# Altium schematic symbol library kmilo17pet-TI_LDO_0_350.SchLib: 1649 symbols (part 11 of 66)
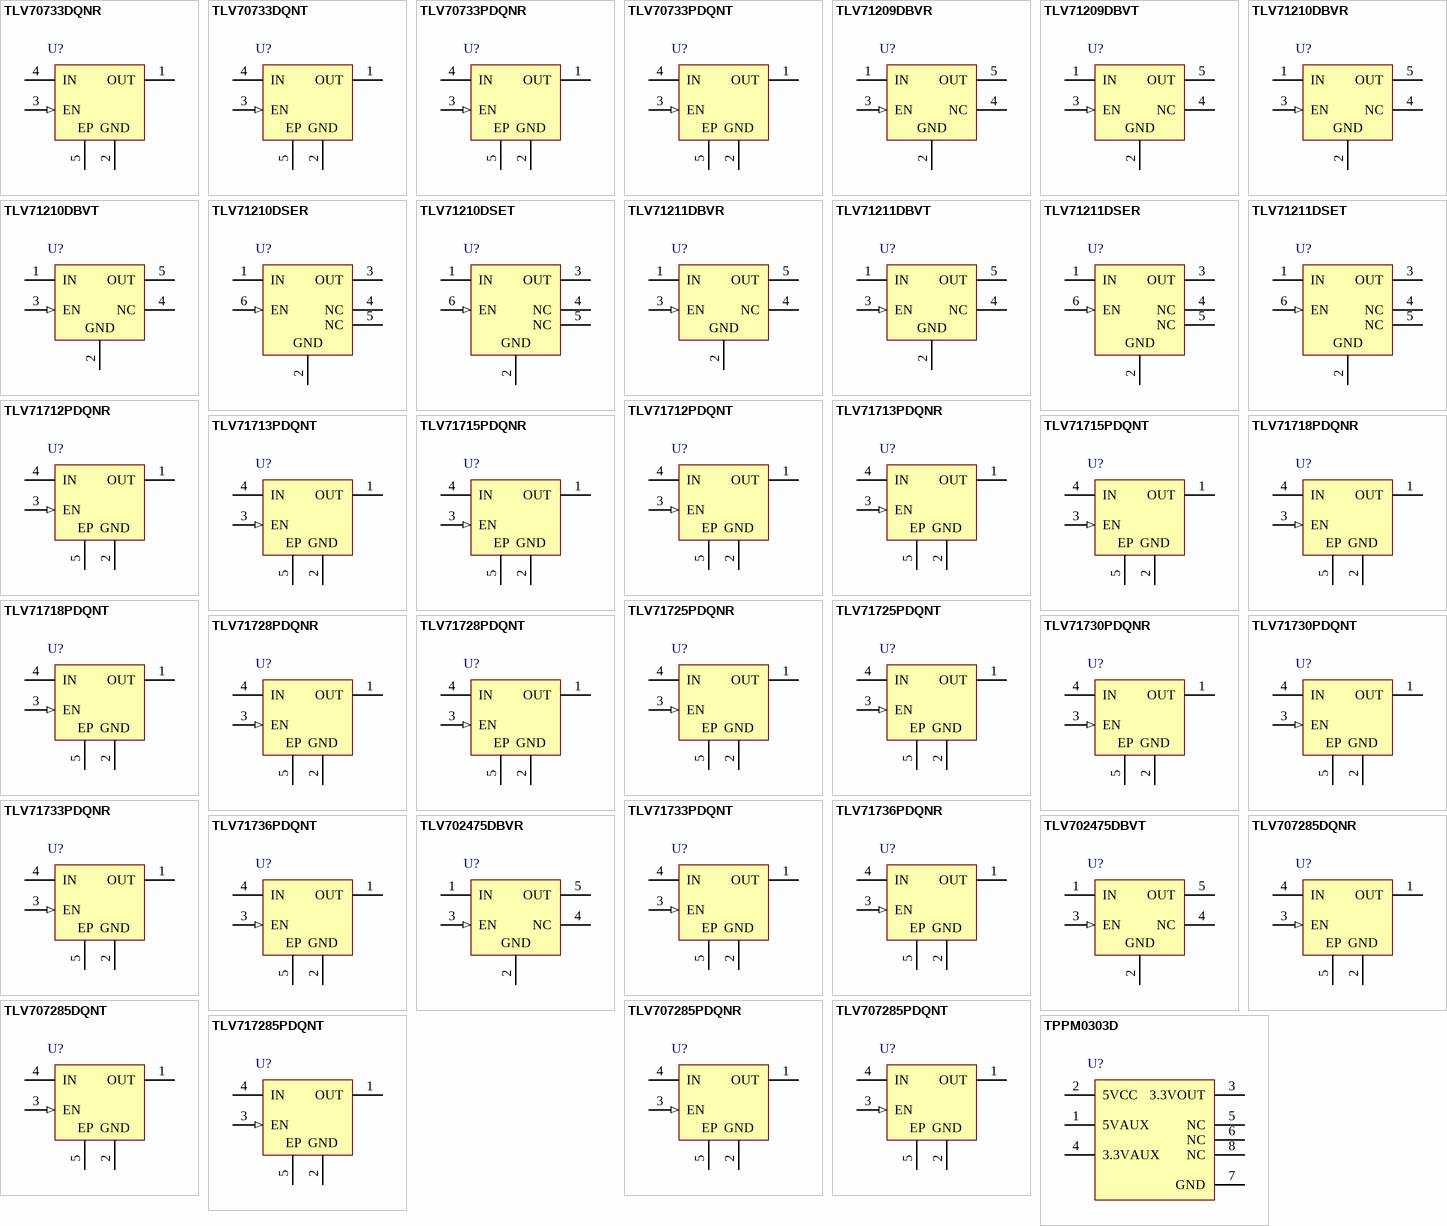
[diagram p52: symbols TLV70733DQNR to TPPM0303D]

## TLV70733PDQNT
designator U?
Single Output Low Noise LDO, 200 mA, Fixed 3.3 V Output, 2 to 5.5 V Input, 4-pin X2SON(DQN), -40 to 85 degC, Green (RoHS & no Sb/Br); Manufacturer: Texas Instruments; PartNumber: TLV70733PDQNT; Accuracy(%): 1.5; Fixed Output Options(V): 3.3; Iout(Max)(A): 0.2; Iq(Typ)(mA): 0.02; SubFamily: Single Channel LDO; Vdo(Typ)(mV): 250; Vin(Max)(V): 5.5; Vin(Min)(V): 2; DatasheetVersion: SBVS153C; PackageVersion: 4210367/D; PackageReference: DQN4-480X480TP; PackageDescription: 4-Pin Plastic Small Outline, Body 1 x 1 mm, Pitch 0.65 mm; Supplier 1: Digi-Key; Supplier Part Number 1: 296-28355-2-ND; Supplier 2: Digi-Key; Supplier Part Number 2: 296-28355-1-ND; Supplier 3: Digi-Key; Supplier Part Number 3: 296-28355-6-ND; Supplier 4: Newark; Supplier Part Number 4: 40T5408; Supplier 5: Mouser; Supplier Part Number 5: 595-TLV70733PDQNT; Eco-Plan: Green (RoHS & no Sb/Br); Vout Adj(Max)(V): 3.3; Vout Adj(Min)(V): 3.3; Mounting Technology: Surface Mount; ComponentLink1Description: Manufacturer URL; ComponentLink1URL: http://www.ti.com/; ComponentLink2Description: Datasheet; ComponentLink2URL: http://www.ti.com/general/docs/lit/getliterature.tsp?genericPartNumber=TLV70733P&fileType=pdf
footprint TI-DQN4-480X480TP_V (SON, 4-Leads, Body 1x1mm, Pitch 0.65mm, Thermal Pad 0.5x0.5mm)
pins: 1 OUT (power) "Regulated output voltage pin. A small 1 uF ceramic capacitor is needed from this pin to ground to assure stability.", 2 GND (power) "Ground pin", 3 EN (in) "Enable pin. Driving EN over 0.9 V turns on the regulator. Driving EN below 0.4 V puts the regulator into shutdown mode For TLV707xxP, output voltage is discharged through an internal 120-ohm resistor when device is shut down.", 4 IN (power) "Input pin. A small 1uF ceramic capacitor is recommended from this pin to ground for good transient performance.", 5 EP "Exposed thermal pad"

## TLV71209DBVR
designator U?
Single Output LDO, 300 mA, Fixed 0.9 V Output, 2 to 5.5 V Input, with Low IQ, 5-pin SOT-23 (DBV), -40 to 125 degC, Green (RoHS & no Sb/Br); Manufacturer: Texas Instruments; PartNumber: TLV71209DBVR; Accuracy(%): 2; Fixed Output Options(V): 0.9; Iout(Max)(A): 0.3; Iq(Typ)(mA): 0.035; SubFamily: Single Channel LDO; Vdo(Typ)(mV): 260; Vin(Max)(V): 5.5; DatasheetVersion: SBVS150A; PackageVersion: 4073253-4/K; PackageReference: DBV5; PackageDescription: 5-Pin Plastic Small Outline, Body 1.60 Ã— 2.90 mm, Pitch 0.95 mm; Supplier 1: Digi-Key; Supplier Part Number 1: TLV71209DBVR-ND; Supplier 2: Newark; Supplier Part Number 2: 13T5915; Supplier 3: Mouser; Supplier Part Number 3: 595-TLV71209DBVR; Eco-Plan: Green (RoHS & no Sb/Br); Vin(Min)(V): 2; Vout Adj(Max)(V): 0.9; Vout Adj(Min)(V): 0.9; Mounting Technology: Surface Mount; Code_JEDEC: MO-178; ComponentLink1Description: Manufacturer URL; ComponentLink1URL: http://www.ti.com/; ComponentLink2Description: Datasheet; ComponentLink2URL: http://www.ti.com/general/docs/lit/getliterature.tsp?genericPartNumber=TLV71209&fileType=pdf; ComponentLink3Description: Package Specification; ComponentLink3URL: http://www.ti.com/litv/pdf/mpds018i
footprint TI-DBV5_N (SOT23, 5-Leads, Body 2.9x1.6mm, Pitch 0.95mm, IPC Medium Density)
footprint TI-DBV5_L (SOT23, 5-Leads, Body 2.9x1.6mm, Pitch 0.95mm, IPC High Density)
footprint TI-DBV5_M (SOT23, 5-Leads, Body 2.9x1.6mm, Pitch 0.95mm, IPC Low Density)
pins: 1 IN (power) "Input supply voltage", 2 GND (power) "Ground", 3 EN (in) "Enable input", 4 NC "No connected", 5 OUT (power) "Regulated output voltage"

## TLV71209DBVT
designator U?
Single Output LDO, 300 mA, Fixed 0.9 V Output, 2 to 5.5 V Input, with Low IQ, 5-pin SOT-23 (DBV), -40 to 125 degC, Green (RoHS & no Sb/Br); Manufacturer: Texas Instruments; PartNumber: TLV71209DBVT; Accuracy(%): 2; Fixed Output Options(V): 0.9; Iout(Max)(A): 0.3; Iq(Typ)(mA): 0.035; SubFamily: Single Channel LDO; Vdo(Typ)(mV): 260; Vin(Max)(V): 5.5; DatasheetVersion: SBVS150A; PackageVersion: 4073253-4/K; PackageReference: DBV5; PackageDescription: 5-Pin Plastic Small Outline, Body 1.60 Ã— 2.90 mm, Pitch 0.95 mm; Supplier 1: Digi-Key; Supplier Part Number 1: 296-27896-2-ND; Supplier 2: Digi-Key; Supplier Part Number 2: 296-27896-1-ND; Supplier 3: Digi-Key; Supplier Part Number 3: 296-27896-6-ND; Supplier 4: Newark; Supplier Part Number 4: 13T5916; Supplier 5: Mouser; Supplier Part Number 5: 595-TLV71209DBVT; Eco-Plan: Green (RoHS & no Sb/Br); Vin(Min)(V): 2; Vout Adj(Max)(V): 0.9; Vout Adj(Min)(V): 0.9; Mounting Technology: Surface Mount; Code_JEDEC: MO-178; ComponentLink1Description: Manufacturer URL; ComponentLink1URL: http://www.ti.com/; ComponentLink2Description: Datasheet; ComponentLink2URL: http://www.ti.com/general/docs/lit/getliterature.tsp?genericPartNumber=TLV71209&fileType=pdf; ComponentLink3Description: Package Specification; ComponentLink3URL: http://www.ti.com/litv/pdf/mpds018i
footprint TI-DBV5_N (SOT23, 5-Leads, Body 2.9x1.6mm, Pitch 0.95mm, IPC Medium Density)
footprint TI-DBV5_L (SOT23, 5-Leads, Body 2.9x1.6mm, Pitch 0.95mm, IPC High Density)
footprint TI-DBV5_M (SOT23, 5-Leads, Body 2.9x1.6mm, Pitch 0.95mm, IPC Low Density)
pins: 1 IN (power) "Input supply voltage", 2 GND (power) "Ground", 3 EN (in) "Enable input", 4 NC "No connected", 5 OUT (power) "Regulated output voltage"

## TLV71210DBVR
designator U?
Single Output LDO, 300 mA, Fixed 1 V Output, 2 to 5.5 V Input, with Low IQ, 5-pin SOT-23 (DBV), -40 to 125 degC, Green (RoHS & no Sb/Br); Manufacturer: Texas Instruments; PartNumber: TLV71210DBVR; Accuracy(%): 2; Fixed Output Options(V): 1; Iout(Max)(A): 0.3; Iq(Typ)(mA): 0.035; SubFamily: Single Channel LDO; Vdo(Typ)(mV): 260; Vin(Max)(V): 5.5; DatasheetVersion: SBVS150A; PackageVersion: 4073253-4/K; PackageReference: DBV5; PackageDescription: 5-Pin Plastic Small Outline, Body 1.60 Ã— 2.90 mm, Pitch 0.95 mm; Supplier 1: Digi-Key; Supplier Part Number 1: 296-29737-2-ND; Supplier 2: Digi-Key; Supplier Part Number 2: 296-29737-1-ND; Supplier 3: Digi-Key; Supplier Part Number 3: 296-29737-6-ND; Supplier 4: Newark; Supplier Part Number 4: 71T5416; Supplier 5: Mouser; Supplier Part Number 5: 595-TLV71210DBVR; Eco-Plan: Green (RoHS & no Sb/Br); Vin(Min)(V): 2; Vout Adj(Max)(V): 1; Vout Adj(Min)(V): 1; Mounting Technology: Surface Mount; Code_JEDEC: MO-178; ComponentLink1Description: Manufacturer URL; ComponentLink1URL: http://www.ti.com/; ComponentLink2Description: Datasheet; ComponentLink2URL: http://www.ti.com/general/docs/lit/getliterature.tsp?genericPartNumber=TLV71210&fileType=pdf; ComponentLink3Description: Package Specification; ComponentLink3URL: http://www.ti.com/litv/pdf/mpds018i
footprint TI-DBV5_N (SOT23, 5-Leads, Body 2.9x1.6mm, Pitch 0.95mm, IPC Medium Density)
footprint TI-DBV5_L (SOT23, 5-Leads, Body 2.9x1.6mm, Pitch 0.95mm, IPC High Density)
footprint TI-DBV5_M (SOT23, 5-Leads, Body 2.9x1.6mm, Pitch 0.95mm, IPC Low Density)
pins: 1 IN (power) "Input supply voltage", 2 GND (power) "Ground", 3 EN (in) "Enable input", 4 NC "No connected", 5 OUT (power) "Regulated output voltage"

## TLV71210DBVT
designator U?
Single Output LDO, 300 mA, Fixed 1 V Output, 2 to 5.5 V Input, with Low IQ, 5-pin SOT-23 (DBV), -40 to 125 degC, Green (RoHS & no Sb/Br); Manufacturer: Texas Instruments; PartNumber: TLV71210DBVT; Accuracy(%): 2; Fixed Output Options(V): 1; Iout(Max)(A): 0.3; Iq(Typ)(mA): 0.035; SubFamily: Single Channel LDO; Vdo(Typ)(mV): 260; Vin(Max)(V): 5.5; DatasheetVersion: SBVS150A; PackageVersion: 4073253-4/K; PackageReference: DBV5; PackageDescription: 5-Pin Plastic Small Outline, Body 1.60 Ã— 2.90 mm, Pitch 0.95 mm; Supplier 1: Digi-Key; Supplier Part Number 1: TLV71210DBVT-ND; Supplier 2: Mouser; Supplier Part Number 2: 595-TLV71210DBVT; Eco-Plan: Green (RoHS & no Sb/Br); Vin(Min)(V): 2; Vout Adj(Max)(V): 1; Vout Adj(Min)(V): 1; Mounting Technology: Surface Mount; Code_JEDEC: MO-178; ComponentLink1Description: Manufacturer URL; ComponentLink1URL: http://www.ti.com/; ComponentLink2Description: Datasheet; ComponentLink2URL: http://www.ti.com/general/docs/lit/getliterature.tsp?genericPartNumber=TLV71210&fileType=pdf; ComponentLink3Description: Package Specification; ComponentLink3URL: http://www.ti.com/litv/pdf/mpds018i
footprint TI-DBV5_N (SOT23, 5-Leads, Body 2.9x1.6mm, Pitch 0.95mm, IPC Medium Density)
footprint TI-DBV5_L (SOT23, 5-Leads, Body 2.9x1.6mm, Pitch 0.95mm, IPC High Density)
footprint TI-DBV5_M (SOT23, 5-Leads, Body 2.9x1.6mm, Pitch 0.95mm, IPC Low Density)
pins: 1 IN (power) "Input supply voltage", 2 GND (power) "Ground", 3 EN (in) "Enable input", 4 NC "No connected", 5 OUT (power) "Regulated output voltage"

## TLV71210DSER
designator U?
Single Output LDO, 300 mA, Fixed 1 V Output, 2 to 5.5 V Input, with Low IQ, 6-pin WSON (DSE), -40 to 125 degC, Green (RoHS & no Sb/Br); Manufacturer: Texas Instruments; PartNumber: TLV71210DSER; Accuracy(%): 2; Fixed Output Options(V): 1; Iout(Max)(A): 0.3; Iq(Typ)(mA): 0.035; SubFamily: Single Channel LDO; Vdo(Typ)(mV): 260; Vin(Max)(V): 5.5; DatasheetVersion: SBVS150A; PackageVersion: 4207810/A; PackageReference: DSE6; PackageDescription: 6-Pin Plastic Small Outline, Body 1.5 x 1.5 mm, Pitch 0.5 mm; Supplier 1: Digi-Key; Supplier Part Number 1: TLV71210DSER-ND; Supplier 2: Mouser; Supplier Part Number 2: 595-TLV71210DSER; Eco-Plan: Green (RoHS & no Sb/Br); Vin(Min)(V): 2; Vout Adj(Max)(V): 1; Vout Adj(Min)(V): 1; Mounting Technology: Surface Mount; ComponentLink1Description: Manufacturer URL; ComponentLink1URL: http://www.ti.com/; ComponentLink2Description: Datasheet; ComponentLink2URL: http://www.ti.com/general/docs/lit/getliterature.tsp?genericPartNumber=TLV71210&fileType=pdf; ComponentLink3Description: Package Specification; ComponentLink3URL: http://www.ti.com/litv/pdf/mpds287
footprint TI-DSE6_V (SON, 6-Leads, Body 1.5x1.5mm, Pitch 0.5mm)
pins: 1 IN (power) "Input pin. A small 1-uF ceramic capacitor is recommended from this pin to ground to assure stability and good transient performance. See Input and Output Capacitor Requirements in the Application Information section for more (See Datasheet)", 2 GND (power) "Ground pin", 3 OUT (power) "Regulated output voltage pin. A small 1-uF ceramic capacitor is needed from this pin to ground to assure stability. See Input and Output Capacitor Requirements in the Application Information section for more details", 4 NC "No connection. This pin can be tied to ground to improve thermal dissipation", 5 NC "No connection. This pin can be tied to ground to improve thermal dissipation", 6 EN (in) "Enable pin. Driving EN over 0.9 V turns on the regulator. Driving EN below 0.4 V puts the regulator into shutdown mode and reduces operating current to 1 uA, nominal"

## TLV71210DSET
designator U?
Single Output LDO, 300 mA, Fixed 1 V Output, 2 to 5.5 V Input, with Low IQ, 6-pin WSON (DSE), -40 to 125 degC, Green (RoHS & no Sb/Br); Manufacturer: Texas Instruments; PartNumber: TLV71210DSET; Accuracy(%): 2; Fixed Output Options(V): 1; Iout(Max)(A): 0.3; Iq(Typ)(mA): 0.035; SubFamily: Single Channel LDO; Vdo(Typ)(mV): 260; Vin(Max)(V): 5.5; DatasheetVersion: SBVS150A; PackageVersion: 4207810/A; PackageReference: DSE6; PackageDescription: 6-Pin Plastic Small Outline, Body 1.5 x 1.5 mm, Pitch 0.5 mm; Supplier 1: Digi-Key; Supplier Part Number 1: 296-28442-2-ND; Supplier 2: Digi-Key; Supplier Part Number 2: 296-28442-1-ND; Supplier 3: Digi-Key; Supplier Part Number 3: 296-28442-6-ND; Supplier 4: Mouser; Supplier Part Number 4: 595-TLV71210DSET; Eco-Plan: Green (RoHS & no Sb/Br); Vin(Min)(V): 2; Vout Adj(Max)(V): 1; Vout Adj(Min)(V): 1; Mounting Technology: Surface Mount; ComponentLink1Description: Manufacturer URL; ComponentLink1URL: http://www.ti.com/; ComponentLink2Description: Datasheet; ComponentLink2URL: http://www.ti.com/general/docs/lit/getliterature.tsp?genericPartNumber=TLV71210&fileType=pdf; ComponentLink3Description: Package Specification; ComponentLink3URL: http://www.ti.com/litv/pdf/mpds287
footprint TI-DSE6_V (SON, 6-Leads, Body 1.5x1.5mm, Pitch 0.5mm)
pins: 1 IN (power) "Input pin. A small 1-uF ceramic capacitor is recommended from this pin to ground to assure stability and good transient performance. See Input and Output Capacitor Requirements in the Application Information section for more (See Datasheet)", 2 GND (power) "Ground pin", 3 OUT (power) "Regulated output voltage pin. A small 1-uF ceramic capacitor is needed from this pin to ground to assure stability. See Input and Output Capacitor Requirements in the Application Information section for more details", 4 NC "No connection. This pin can be tied to ground to improve thermal dissipation", 5 NC "No connection. This pin can be tied to ground to improve thermal dissipation", 6 EN (in) "Enable pin. Driving EN over 0.9 V turns on the regulator. Driving EN below 0.4 V puts the regulator into shutdown mode and reduces operating current to 1 uA, nominal"

## TLV71211DBVR
designator U?
Single Output LDO, 300 mA, Fixed 1.1 V Output, 2 to 5.5 V Input, with Low IQ, 5-pin SOT-23 (DBV), -40 to 125 degC, Green (RoHS & no Sb/Br); Manufacturer: Texas Instruments; PartNumber: TLV71211DBVR; Accuracy(%): 2; Fixed Output Options(V): 1.1; Iout(Max)(A): 0.3; Iq(Typ)(mA): 0.035; SubFamily: Single Channel LDO; Vdo(Typ)(mV): 260; Vin(Max)(V): 5.5; DatasheetVersion: SBVS150A; PackageVersion: 4073253-4/K; PackageReference: DBV5; PackageDescription: 5-Pin Plastic Small Outline, Body 1.60 Ã— 2.90 mm, Pitch 0.95 mm; Supplier 1: Digi-Key; Supplier Part Number 1: 296-30593-2-ND; Supplier 2: Digi-Key; Supplier Part Number 2: 296-30593-1-ND; Supplier 3: Digi-Key; Supplier Part Number 3: 296-30593-6-ND; Supplier 4: Newark; Supplier Part Number 4: 27W9648; Supplier 5: Mouser; Supplier Part Number 5: 595-TLV71211DBVR; Eco-Plan: Green (RoHS & no Sb/Br); Vin(Min)(V): 2; Vout Adj(Max)(V): 1.1; Vout Adj(Min)(V): 1.1; Mounting Technology: Surface Mount; Code_JEDEC: MO-178; ComponentLink1Description: Manufacturer URL; ComponentLink1URL: http://www.ti.com/; ComponentLink2Description: Datasheet; ComponentLink2URL: http://www.ti.com/general/docs/lit/getliterature.tsp?genericPartNumber=TLV71211&fileType=pdf; ComponentLink3Description: Package Specification; ComponentLink3URL: http://www.ti.com/litv/pdf/mpds018i
footprint TI-DBV5_N (SOT23, 5-Leads, Body 2.9x1.6mm, Pitch 0.95mm, IPC Medium Density)
footprint TI-DBV5_L (SOT23, 5-Leads, Body 2.9x1.6mm, Pitch 0.95mm, IPC High Density)
footprint TI-DBV5_M (SOT23, 5-Leads, Body 2.9x1.6mm, Pitch 0.95mm, IPC Low Density)
pins: 1 IN (power) "Input supply voltage", 2 GND (power) "Ground", 3 EN (in) "Enable input", 4 NC "No connected", 5 OUT (power) "Regulated output voltage"

## TLV71211DBVT
designator U?
Single Output LDO, 300 mA, Fixed 1.1 V Output, 2 to 5.5 V Input, with Low IQ, 5-pin SOT-23 (DBV), -40 to 125 degC, Green (RoHS & no Sb/Br); Manufacturer: Texas Instruments; PartNumber: TLV71211DBVT; Accuracy(%): 2; Fixed Output Options(V): 1.1; Iout(Max)(A): 0.3; Iq(Typ)(mA): 0.035; SubFamily: Single Channel LDO; Vdo(Typ)(mV): 260; Vin(Max)(V): 5.5; DatasheetVersion: SBVS150A; PackageVersion: 4073253-4/K; PackageReference: DBV5; PackageDescription: 5-Pin Plastic Small Outline, Body 1.60 Ã— 2.90 mm, Pitch 0.95 mm; Supplier 1: Digi-Key; Supplier Part Number 1: TLV71211DBVT-ND; Supplier 2: Newark; Supplier Part Number 2: 27W9649; Supplier 3: Mouser; Supplier Part Number 3: 595-TLV71211DBVT; Eco-Plan: Green (RoHS & no Sb/Br); Vin(Min)(V): 2; Vout Adj(Max)(V): 1.1; Vout Adj(Min)(V): 1.1; Mounting Technology: Surface Mount; Code_JEDEC: MO-178; ComponentLink1Description: Manufacturer URL; ComponentLink1URL: http://www.ti.com/; ComponentLink2Description: Datasheet; ComponentLink2URL: http://www.ti.com/general/docs/lit/getliterature.tsp?genericPartNumber=TLV71211&fileType=pdf; ComponentLink3Description: Package Specification; ComponentLink3URL: http://www.ti.com/litv/pdf/mpds018i
footprint TI-DBV5_N (SOT23, 5-Leads, Body 2.9x1.6mm, Pitch 0.95mm, IPC Medium Density)
footprint TI-DBV5_L (SOT23, 5-Leads, Body 2.9x1.6mm, Pitch 0.95mm, IPC High Density)
footprint TI-DBV5_M (SOT23, 5-Leads, Body 2.9x1.6mm, Pitch 0.95mm, IPC Low Density)
pins: 1 IN (power) "Input supply voltage", 2 GND (power) "Ground", 3 EN (in) "Enable input", 4 NC "No connected", 5 OUT (power) "Regulated output voltage"

## TLV71211DSER
designator U?
Single Output LDO, 300 mA, Fixed 1.1 V Output, 2 to 5.5 V Input, with Low IQ, 6-pin WSON (DSE), -40 to 125 degC, Green (RoHS & no Sb/Br); Manufacturer: Texas Instruments; PartNumber: TLV71211DSER; Accuracy(%): 2; Fixed Output Options(V): 1.1; Iout(Max)(A): 0.3; Iq(Typ)(mA): 0.035; SubFamily: Single Channel LDO; Vdo(Typ)(mV): 260; Vin(Max)(V): 5.5; DatasheetVersion: SBVS150A; PackageVersion: 4207810/A; PackageReference: DSE6; PackageDescription: 6-Pin Plastic Small Outline, Body 1.5 x 1.5 mm, Pitch 0.5 mm; Supplier 1: Digi-Key; Supplier Part Number 1: 296-30487-2-ND; Supplier 2: Digi-Key; Supplier Part Number 2: 296-30487-1-ND; Supplier 3: Digi-Key; Supplier Part Number 3: 296-30487-6-ND; Supplier 4: Newark; Supplier Part Number 4: 06W3538; Supplier 5: Mouser; Supplier Part Number 5: 595-TLV71211DSER; Eco-Plan: Green (RoHS & no Sb/Br); Vin(Min)(V): 2; Vout Adj(Max)(V): 1.1; Vout Adj(Min)(V): 1.1; Mounting Technology: Surface Mount; ComponentLink1Description: Manufacturer URL; ComponentLink1URL: http://www.ti.com/; ComponentLink2Description: Datasheet; ComponentLink2URL: http://www.ti.com/general/docs/lit/getliterature.tsp?genericPartNumber=TLV71211&fileType=pdf; ComponentLink3Description: Package Specification; ComponentLink3URL: http://www.ti.com/litv/pdf/mpds287
footprint TI-DSE6_V (SON, 6-Leads, Body 1.5x1.5mm, Pitch 0.5mm)
pins: 1 IN (power) "Input pin. A small 1-uF ceramic capacitor is recommended from this pin to ground to assure stability and good transient performance. See Input and Output Capacitor Requirements in the Application Information section for more (See Datasheet)", 2 GND (power) "Ground pin", 3 OUT (power) "Regulated output voltage pin. A small 1-uF ceramic capacitor is needed from this pin to ground to assure stability. See Input and Output Capacitor Requirements in the Application Information section for more details", 4 NC "No connection. This pin can be tied to ground to improve thermal dissipation", 5 NC "No connection. This pin can be tied to ground to improve thermal dissipation", 6 EN (in) "Enable pin. Driving EN over 0.9 V turns on the regulator. Driving EN below 0.4 V puts the regulator into shutdown mode and reduces operating current to 1 uA, nominal"

## TLV71211DSET
designator U?
Single Output LDO, 300 mA, Fixed 1.1 V Output, 2 to 5.5 V Input, with Low IQ, 6-pin WSON (DSE), -40 to 125 degC, Green (RoHS & no Sb/Br); Manufacturer: Texas Instruments; PartNumber: TLV71211DSET; Accuracy(%): 2; Fixed Output Options(V): 1.1; Iout(Max)(A): 0.3; Iq(Typ)(mA): 0.035; SubFamily: Single Channel LDO; Vdo(Typ)(mV): 260; Vin(Max)(V): 5.5; DatasheetVersion: SBVS150A; PackageVersion: 4207810/A; PackageReference: DSE6; PackageDescription: 6-Pin Plastic Small Outline, Body 1.5 x 1.5 mm, Pitch 0.5 mm; Supplier 1: Digi-Key; Supplier Part Number 1: TLV71211DSET-ND; Supplier 2: Farnell; Supplier Part Number 2: 2211355; Supplier 3: Newark; Supplier Part Number 3: 06W3539; Supplier 4: Newark; Supplier Part Number 4: 44W8605; Supplier 5: Mouser; Supplier Part Number 5: 595-TLV71211DSET; Eco-Plan: Green (RoHS & no Sb/Br); Vin(Min)(V): 2; Vout Adj(Max)(V): 1.1; Vout Adj(Min)(V): 1.1; Mounting Technology: Surface Mount; ComponentLink1Description: Manufacturer URL; ComponentLink1URL: http://www.ti.com/; ComponentLink2Description: Datasheet; ComponentLink2URL: http://www.ti.com/general/docs/lit/getliterature.tsp?genericPartNumber=TLV71211&fileType=pdf; ComponentLink3Description: Package Specification; ComponentLink3URL: http://www.ti.com/litv/pdf/mpds287
footprint TI-DSE6_V (SON, 6-Leads, Body 1.5x1.5mm, Pitch 0.5mm)
pins: 1 IN (power) "Input pin. A small 1-uF ceramic capacitor is recommended from this pin to ground to assure stability and good transient performance. See Input and Output Capacitor Requirements in the Application Information section for more (See Datasheet)", 2 GND (power) "Ground pin", 3 OUT (power) "Regulated output voltage pin. A small 1-uF ceramic capacitor is needed from this pin to ground to assure stability. See Input and Output Capacitor Requirements in the Application Information section for more details", 4 NC "No connection. This pin can be tied to ground to improve thermal dissipation", 5 NC "No connection. This pin can be tied to ground to improve thermal dissipation", 6 EN (in) "Enable pin. Driving EN over 0.9 V turns on the regulator. Driving EN below 0.4 V puts the regulator into shutdown mode and reduces operating current to 1 uA, nominal"

## TLV71712PDQNR
designator U?
Single Output Low Noise LDO, 150 mA, Fixed 1.2 V Output, 1.7 to 5.5 V Input, 4-pin X2SON (DQN), -40 to 85 degC, Green (RoHS & no Sb/Br); Manufacturer: Texas Instruments; PartNumber: TLV71712PDQNR; Accuracy(%): 1.5; Fixed Output Options(V): 1.2; Iout(Max)(A): 0.15; Iq(Typ)(mA): 0.03; SubFamily: Single Channel LDO; Vdo(Typ)(mV): 360; Vin(Max)(V): 5.5; Vin(Min)(V): 1.7; DatasheetVersion: SBVS176A; PackageVersion: 4210367/D; PackageReference: DQN4-480X480TP; PackageDescription: 4-Pin Plastic Small Outline, Body 1 x 1 mm, Pitch 0.65 mm; Supplier 1: Digi-Key; Supplier Part Number 1: TLV71712PDQNR-ND; Supplier 2: Newark; Supplier Part Number 2: 94T1799; Supplier 3: Mouser; Supplier Part Number 3: 595-TLV71712PDQNR; Eco-Plan: Green (RoHS & no Sb/Br); Vout Adj(Max)(V): 1.2; Vout Adj(Min)(V): 1.2; Mounting Technology: Surface Mount; ComponentLink1Description: Manufacturer URL; ComponentLink1URL: http://www.ti.com/; ComponentLink2Description: Datasheet; ComponentLink2URL: http://www.ti.com/general/docs/lit/getliterature.tsp?genericPartNumber=TLV71712P&fileType=pdf
footprint TI-DQN4-480X480TP_V (SON, 4-Leads, Body 1x1mm, Pitch 0.65mm, Thermal Pad 0.5x0.5mm)
pins: 1 OUT (power) "Regulated output voltage pin. A small 1-uF ceramic capacitor is recommended from this pin to ground to assure stability.", 2 GND (power) "Ground pin", 3 EN (in) "Enable pin. Driving EN over 1.2 V turns on the regulator. Driving EN below 0.4 V puts the regulator into shutdown mode.", 4 IN (power) "Input pin. A small capacitor is recommended from this pin to ground to assure stability.", 5 EP (power) "It is recommended to connect this pin to GND for improved thermal performance."

## TLV71712PDQNT
designator U?
Single Output Low Noise LDO, 150 mA, Fixed 1.2 V Output, 1.7 to 5.5 V Input, 4-pin X2SON (DQN), -40 to 85 degC, Green (RoHS & no Sb/Br); Manufacturer: Texas Instruments; PartNumber: TLV71712PDQNT; Accuracy(%): 1.5; Fixed Output Options(V): 1.2; Iout(Max)(A): 0.15; Iq(Typ)(mA): 0.03; SubFamily: Single Channel LDO; Vdo(Typ)(mV): 360; Vin(Max)(V): 5.5; Vin(Min)(V): 1.7; DatasheetVersion: SBVS176A; PackageVersion: 4210367/D; PackageReference: DQN4-480X480TP; PackageDescription: 4-Pin Plastic Small Outline, Body 1 x 1 mm, Pitch 0.65 mm; Supplier 1: Digi-Key; Supplier Part Number 1: 296-30481-2-ND; Supplier 2: Digi-Key; Supplier Part Number 2: 296-30481-1-ND; Supplier 3: Digi-Key; Supplier Part Number 3: 296-30481-6-ND; Supplier 4: Farnell; Supplier Part Number 4: 2144271; Supplier 5: Newark; Supplier Part Number 5: 94T1800; Supplier 6: Newark; Supplier Part Number 6: 27W5371; Supplier 7: Mouser; Supplier Part Number 7: 595-TLV71712PDQNT; Eco-Plan: Green (RoHS & no Sb/Br); Vout Adj(Max)(V): 1.2; Vout Adj(Min)(V): 1.2; Mounting Technology: Surface Mount; ComponentLink1Description: Manufacturer URL; ComponentLink1URL: http://www.ti.com/; ComponentLink2Description: Datasheet; ComponentLink2URL: http://www.ti.com/general/docs/lit/getliterature.tsp?genericPartNumber=TLV71712P&fileType=pdf
footprint TI-DQN4-480X480TP_V (SON, 4-Leads, Body 1x1mm, Pitch 0.65mm, Thermal Pad 0.5x0.5mm)
pins: 1 OUT (power) "Regulated output voltage pin. A small 1-uF ceramic capacitor is recommended from this pin to ground to assure stability.", 2 GND (power) "Ground pin", 3 EN (in) "Enable pin. Driving EN over 1.2 V turns on the regulator. Driving EN below 0.4 V puts the regulator into shutdown mode.", 4 IN (power) "Input pin. A small capacitor is recommended from this pin to ground to assure stability.", 5 EP (power) "It is recommended to connect this pin to GND for improved thermal performance."

## TLV71713PDQNR
designator U?
Single Output Low Noise LDO, 150 mA, Fixed 1.3 V Output, 1.7 to 5.5 V Input, 4-pin X2SON (DQN), -40 to 85 degC, Green (RoHS & no Sb/Br); Manufacturer: Texas Instruments; PartNumber: TLV71713PDQNR; Accuracy(%): 1.5; Fixed Output Options(V): 1.3; Iout(Max)(A): 0.15; Iq(Typ)(mA): 0.03; SubFamily: Single Channel LDO; Vdo(Typ)(mV): 360; Vin(Max)(V): 5.5; Vin(Min)(V): 1.7; DatasheetVersion: SBVS176A; PackageVersion: 4210367/D; PackageReference: DQN4-480X480TP; PackageDescription: 4-Pin Plastic Small Outline, Body 1 x 1 mm, Pitch 0.65 mm; Supplier 1: Digi-Key; Supplier Part Number 1: TLV71713PDQNR-ND; Supplier 2: Newark; Supplier Part Number 2: 94T1801; Supplier 3: Mouser; Supplier Part Number 3: 595-TLV71713PDQNR; Eco-Plan: Green (RoHS & no Sb/Br); Vout Adj(Max)(V): 1.3; Vout Adj(Min)(V): 1.3; Mounting Technology: Surface Mount; ComponentLink1Description: Manufacturer URL; ComponentLink1URL: http://www.ti.com/; ComponentLink2Description: Datasheet; ComponentLink2URL: http://www.ti.com/general/docs/lit/getliterature.tsp?genericPartNumber=TLV71713P&fileType=pdf
footprint TI-DQN4-480X480TP_V (SON, 4-Leads, Body 1x1mm, Pitch 0.65mm, Thermal Pad 0.5x0.5mm)
pins: 1 OUT (power) "Regulated output voltage pin. A small 1-uF ceramic capacitor is recommended from this pin to ground to assure stability.", 2 GND (power) "Ground pin", 3 EN (in) "Enable pin. Driving EN over 1.2 V turns on the regulator. Driving EN below 0.4 V puts the regulator into shutdown mode.", 4 IN (power) "Input pin. A small capacitor is recommended from this pin to ground to assure stability.", 5 EP (power) "It is recommended to connect this pin to GND for improved thermal performance."

## TLV71713PDQNT
designator U?
Single Output Low Noise LDO, 150 mA, Fixed 1.3 V Output, 1.7 to 5.5 V Input, 4-pin X2SON (DQN), -40 to 85 degC, Green (RoHS & no Sb/Br); Manufacturer: Texas Instruments; PartNumber: TLV71713PDQNT; Accuracy(%): 1.5; Fixed Output Options(V): 1.3; Iout(Max)(A): 0.15; Iq(Typ)(mA): 0.03; SubFamily: Single Channel LDO; Vdo(Typ)(mV): 360; Vin(Max)(V): 5.5; Vin(Min)(V): 1.7; DatasheetVersion: SBVS176A; PackageVersion: 4210367/D; PackageReference: DQN4-480X480TP; PackageDescription: 4-Pin Plastic Small Outline, Body 1 x 1 mm, Pitch 0.65 mm; Supplier 1: Digi-Key; Supplier Part Number 1: 296-30482-2-ND; Supplier 2: Digi-Key; Supplier Part Number 2: 296-30482-1-ND; Supplier 3: Digi-Key; Supplier Part Number 3: 296-30482-6-ND; Supplier 4: Farnell; Supplier Part Number 4: 2144272; Supplier 5: Newark; Supplier Part Number 5: 94T1802; Supplier 6: Newark; Supplier Part Number 6: 27W5372; Supplier 7: Mouser; Supplier Part Number 7: 595-TLV71713PDQNT; Eco-Plan: Green (RoHS & no Sb/Br); Vout Adj(Max)(V): 1.3; Vout Adj(Min)(V): 1.3; Mounting Technology: Surface Mount; ComponentLink1Description: Manufacturer URL; ComponentLink1URL: http://www.ti.com/; ComponentLink2Description: Datasheet; ComponentLink2URL: http://www.ti.com/general/docs/lit/getliterature.tsp?genericPartNumber=TLV71713P&fileType=pdf
footprint TI-DQN4-480X480TP_V (SON, 4-Leads, Body 1x1mm, Pitch 0.65mm, Thermal Pad 0.5x0.5mm)
pins: 1 OUT (power) "Regulated output voltage pin. A small 1-uF ceramic capacitor is recommended from this pin to ground to assure stability.", 2 GND (power) "Ground pin", 3 EN (in) "Enable pin. Driving EN over 1.2 V turns on the regulator. Driving EN below 0.4 V puts the regulator into shutdown mode.", 4 IN (power) "Input pin. A small capacitor is recommended from this pin to ground to assure stability.", 5 EP (power) "It is recommended to connect this pin to GND for improved thermal performance."

## TLV71715PDQNR
designator U?
Single Output Low Noise LDO, 150 mA, Fixed 1.5 V Output, 1.7 to 5.5 V Input, 4-pin X2SON (DQN), -40 to 85 degC, Green (RoHS & no Sb/Br); Manufacturer: Texas Instruments; PartNumber: TLV71715PDQNR; Accuracy(%): 1.5; Iout(Max)(A): 0.15; Iq(Typ)(mA): 0.03; SubFamily: Single Channel LDO; Vdo(Typ)(mV): 360; Vin(Max)(V): 5.5; Vin(Min)(V): 1.7; DatasheetVersion: SBVS176A; PackageVersion: 4210367/D; PackageReference: DQN4-480X480TP; PackageDescription: 4-Pin Plastic Small Outline, Body 1 x 1 mm, Pitch 0.65 mm; Supplier 1: Digi-Key; Supplier Part Number 1: TLV71715PDQNR-ND; Supplier 2: Newark; Supplier Part Number 2: 94T1803; Supplier 3: Mouser; Supplier Part Number 3: 595-TLV71715PDQNR; Eco-Plan: Green (RoHS & no Sb/Br); Fixed Output Options(V): 1.5; Vout Adj(Max)(V): 1.5; Vout Adj(Min)(V): 1.5; Mounting Technology: Surface Mount; ComponentLink1Description: Manufacturer URL; ComponentLink1URL: http://www.ti.com/; ComponentLink2Description: Datasheet; ComponentLink2URL: http://www.ti.com/general/docs/lit/getliterature.tsp?genericPartNumber=TLV71715P&fileType=pdf
footprint TI-DQN4-480X480TP_V (SON, 4-Leads, Body 1x1mm, Pitch 0.65mm, Thermal Pad 0.5x0.5mm)
pins: 1 OUT (power) "Regulated output voltage pin. A small 1-uF ceramic capacitor is recommended from this pin to ground to assure stability.", 2 GND (power) "Ground pin", 3 EN (in) "Enable pin. Driving EN over 1.2 V turns on the regulator. Driving EN below 0.4 V puts the regulator into shutdown mode.", 4 IN (power) "Input pin. A small capacitor is recommended from this pin to ground to assure stability.", 5 EP (power) "It is recommended to connect this pin to GND for improved thermal performance."

## TLV71715PDQNT
designator U?
Single Output Low Noise LDO, 150 mA, Fixed 1.5 V Output, 1.7 to 5.5 V Input, 4-pin X2SON (DQN), -40 to 85 degC, Green (RoHS & no Sb/Br); Manufacturer: Texas Instruments; PartNumber: TLV71715PDQNT; Accuracy(%): 1.5; Iout(Max)(A): 0.15; Iq(Typ)(mA): 0.03; SubFamily: Single Channel LDO; Vdo(Typ)(mV): 360; Vin(Max)(V): 5.5; Vin(Min)(V): 1.7; DatasheetVersion: SBVS176A; PackageVersion: 4210367/D; PackageReference: DQN4-480X480TP; PackageDescription: 4-Pin Plastic Small Outline, Body 1 x 1 mm, Pitch 0.65 mm; Supplier 1: Digi-Key; Supplier Part Number 1: 296-30483-2-ND; Supplier 2: Digi-Key; Supplier Part Number 2: 296-30483-1-ND; Supplier 3: Digi-Key; Supplier Part Number 3: 296-30483-6-ND; Supplier 4: Farnell; Supplier Part Number 4: 2144273; Supplier 5: Newark; Supplier Part Number 5: 94T1804; Supplier 6: Newark; Supplier Part Number 6: 27W5373; Supplier 7: Mouser; Supplier Part Number 7: 595-TLV71715PDQNT; Eco-Plan: Green (RoHS & no Sb/Br); Fixed Output Options(V): 1.5; Vout Adj(Max)(V): 1.5; Vout Adj(Min)(V): 1.5; Mounting Technology: Surface Mount; ComponentLink1Description: Manufacturer URL; ComponentLink1URL: http://www.ti.com/; ComponentLink2Description: Datasheet; ComponentLink2URL: http://www.ti.com/general/docs/lit/getliterature.tsp?genericPartNumber=TLV71715P&fileType=pdf
footprint TI-DQN4-480X480TP_V (SON, 4-Leads, Body 1x1mm, Pitch 0.65mm, Thermal Pad 0.5x0.5mm)
pins: 1 OUT (power) "Regulated output voltage pin. A small 1-uF ceramic capacitor is recommended from this pin to ground to assure stability.", 2 GND (power) "Ground pin", 3 EN (in) "Enable pin. Driving EN over 1.2 V turns on the regulator. Driving EN below 0.4 V puts the regulator into shutdown mode.", 4 IN (power) "Input pin. A small capacitor is recommended from this pin to ground to assure stability.", 5 EP (power) "It is recommended to connect this pin to GND for improved thermal performance."

## TLV71718PDQNR
designator U?
Single Output Low Noise LDO, 150 mA, Fixed 1.8 V Output, 1.7 to 5.5 V Input, 4-pin X2SON (DQN), -40 to 85 degC, Green (RoHS & no Sb/Br); Manufacturer: Texas Instruments; PartNumber: TLV71718PDQNR; Accuracy(%): 1.5; Fixed Output Options(V): 1.8; Iout(Max)(A): 0.15; Iq(Typ)(mA): 0.03; SubFamily: Single Channel LDO; Vdo(Typ)(mV): 360; Vin(Max)(V): 5.5; Vin(Min)(V): 1.7; DatasheetVersion: SBVS176A; PackageVersion: 4210367/D; PackageReference: DQN4-480X480TP; PackageDescription: 4-Pin Plastic Small Outline, Body 1 x 1 mm, Pitch 0.65 mm; Supplier 1: Digi-Key; Supplier Part Number 1: TLV71718PDQNR-ND; Supplier 2: Newark; Supplier Part Number 2: 94T1805; Supplier 3: Mouser; Supplier Part Number 3: 595-TLV71718PDQNR; Eco-Plan: Green (RoHS & no Sb/Br); Vout Adj(Max)(V): 1.8; Vout Adj(Min)(V): 1.8; Mounting Technology: Surface Mount; ComponentLink1Description: Manufacturer URL; ComponentLink1URL: http://www.ti.com/; ComponentLink2Description: Datasheet; ComponentLink2URL: http://www.ti.com/general/docs/lit/getliterature.tsp?genericPartNumber=TLV71718P&fileType=pdf
footprint TI-DQN4-480X480TP_V (SON, 4-Leads, Body 1x1mm, Pitch 0.65mm, Thermal Pad 0.5x0.5mm)
pins: 1 OUT (power) "Regulated output voltage pin. A small 1-uF ceramic capacitor is recommended from this pin to ground to assure stability.", 2 GND (power) "Ground pin", 3 EN (in) "Enable pin. Driving EN over 1.2 V turns on the regulator. Driving EN below 0.4 V puts the regulator into shutdown mode.", 4 IN (power) "Input pin. A small capacitor is recommended from this pin to ground to assure stability.", 5 EP (power) "It is recommended to connect this pin to GND for improved thermal performance."

## TLV71718PDQNT
designator U?
Single Output Low Noise LDO, 150 mA, Fixed 1.8 V Output, 1.7 to 5.5 V Input, 4-pin X2SON (DQN), -40 to 85 degC, Green (RoHS & no Sb/Br); Manufacturer: Texas Instruments; PartNumber: TLV71718PDQNT; Accuracy(%): 1.5; Fixed Output Options(V): 1.8; Iout(Max)(A): 0.15; Iq(Typ)(mA): 0.03; SubFamily: Single Channel LDO; Vdo(Typ)(mV): 360; Vin(Max)(V): 5.5; Vin(Min)(V): 1.7; DatasheetVersion: SBVS176A; PackageVersion: 4210367/D; PackageReference: DQN4-480X480TP; PackageDescription: 4-Pin Plastic Small Outline, Body 1 x 1 mm, Pitch 0.65 mm; Supplier 1: Digi-Key; Supplier Part Number 1: 296-30484-2-ND; Supplier 2: Digi-Key; Supplier Part Number 2: 296-30484-1-ND; Supplier 3: Digi-Key; Supplier Part Number 3: 296-30484-6-ND; Supplier 4: Farnell; Supplier Part Number 4: 2144274; Supplier 5: Newark; Supplier Part Number 5: 94T1806; Supplier 6: Newark; Supplier Part Number 6: 27W5374; Supplier 7: Mouser; Supplier Part Number 7: 595-TLV71718PDQNT; Eco-Plan: Green (RoHS & no Sb/Br); Vout Adj(Max)(V): 1.8; Vout Adj(Min)(V): 1.8; Mounting Technology: Surface Mount; ComponentLink1Description: Manufacturer URL; ComponentLink1URL: http://www.ti.com/; ComponentLink2Description: Datasheet; ComponentLink2URL: http://www.ti.com/general/docs/lit/getliterature.tsp?genericPartNumber=TLV71718P&fileType=pdf
footprint TI-DQN4-480X480TP_V (SON, 4-Leads, Body 1x1mm, Pitch 0.65mm, Thermal Pad 0.5x0.5mm)
pins: 1 OUT (power) "Regulated output voltage pin. A small 1-uF ceramic capacitor is recommended from this pin to ground to assure stability.", 2 GND (power) "Ground pin", 3 EN (in) "Enable pin. Driving EN over 1.2 V turns on the regulator. Driving EN below 0.4 V puts the regulator into shutdown mode.", 4 IN (power) "Input pin. A small capacitor is recommended from this pin to ground to assure stability.", 5 EP (power) "It is recommended to connect this pin to GND for improved thermal performance."

## TLV71725PDQNR
designator U?
Single Output Low Noise LDO, 150 mA, Fixed 2.5 V Output, 1.7 to 5.5 V Input, 4-pin X2SON (DQN), -40 to 85 degC, Green (RoHS & no Sb/Br); Manufacturer: Texas Instruments; PartNumber: TLV71725PDQNR; Accuracy(%): 1.5; Fixed Output Options(V): 2.5; Iout(Max)(A): 0.15; Iq(Typ)(mA): 0.03; SubFamily: Single Channel LDO; Vdo(Typ)(mV): 360; Vin(Max)(V): 5.5; Vin(Min)(V): 1.7; DatasheetVersion: SBVS176A; PackageVersion: 4210367/D; PackageReference: DQN4-480X480TP; PackageDescription: 4-Pin Plastic Small Outline, Body 1 x 1 mm, Pitch 0.65 mm; Supplier 1: Digi-Key; Supplier Part Number 1: 296-30488-2-ND; Supplier 2: Digi-Key; Supplier Part Number 2: 296-30488-1-ND; Supplier 3: Digi-Key; Supplier Part Number 3: 296-30488-6-ND; Supplier 4: Newark; Supplier Part Number 4: 06W3540; Supplier 5: Mouser; Supplier Part Number 5: 595-TLV71725PDQNR; Eco-Plan: Green (RoHS & no Sb/Br); Vout Adj(Max)(V): 2.5; Vout Adj(Min)(V): 2.5; Mounting Technology: Surface Mount; ComponentLink1Description: Manufacturer URL; ComponentLink1URL: http://www.ti.com/; ComponentLink2Description: Datasheet; ComponentLink2URL: http://www.ti.com/general/docs/lit/getliterature.tsp?genericPartNumber=TLV71725P&fileType=pdf
footprint TI-DQN4-480X480TP_V (SON, 4-Leads, Body 1x1mm, Pitch 0.65mm, Thermal Pad 0.5x0.5mm)
pins: 1 OUT (power) "Regulated output voltage pin. A small 1-uF ceramic capacitor is recommended from this pin to ground to assure stability.", 2 GND (power) "Ground pin", 3 EN (in) "Enable pin. Driving EN over 1.2 V turns on the regulator. Driving EN below 0.4 V puts the regulator into shutdown mode.", 4 IN (power) "Input pin. A small capacitor is recommended from this pin to ground to assure stability.", 5 EP (power) "It is recommended to connect this pin to GND for improved thermal performance."

## TLV71725PDQNT
designator U?
Single Output Low Noise LDO, 150 mA, Fixed 2.5 V Output, 1.7 to 5.5 V Input, 4-pin X2SON (DQN), -40 to 85 degC, Green (RoHS & no Sb/Br); Manufacturer: Texas Instruments; PartNumber: TLV71725PDQNT; Accuracy(%): 1.5; Fixed Output Options(V): 2.5; Iout(Max)(A): 0.15; Iq(Typ)(mA): 0.03; SubFamily: Single Channel LDO; Vdo(Typ)(mV): 360; Vin(Max)(V): 5.5; Vin(Min)(V): 1.7; DatasheetVersion: SBVS176A; PackageVersion: 4210367/D; PackageReference: DQN4-480X480TP; PackageDescription: 4-Pin Plastic Small Outline, Body 1 x 1 mm, Pitch 0.65 mm; Supplier 1: Digi-Key; Supplier Part Number 1: TLV71725PDQNT-ND; Supplier 2: Farnell; Supplier Part Number 2: 2211356; Supplier 3: Newark; Supplier Part Number 3: 06W3541; Supplier 4: Newark; Supplier Part Number 4: 44W8606; Supplier 5: Mouser; Supplier Part Number 5: 595-TLV71725PDQNT; Eco-Plan: Green (RoHS & no Sb/Br); Vout Adj(Max)(V): 2.5; Vout Adj(Min)(V): 2.5; Mounting Technology: Surface Mount; ComponentLink1Description: Manufacturer URL; ComponentLink1URL: http://www.ti.com/; ComponentLink2Description: Datasheet; ComponentLink2URL: http://www.ti.com/general/docs/lit/getliterature.tsp?genericPartNumber=TLV71725P&fileType=pdf
footprint TI-DQN4-480X480TP_V (SON, 4-Leads, Body 1x1mm, Pitch 0.65mm, Thermal Pad 0.5x0.5mm)
pins: 1 OUT (power) "Regulated output voltage pin. A small 1-uF ceramic capacitor is recommended from this pin to ground to assure stability.", 2 GND (power) "Ground pin", 3 EN (in) "Enable pin. Driving EN over 1.2 V turns on the regulator. Driving EN below 0.4 V puts the regulator into shutdown mode.", 4 IN (power) "Input pin. A small capacitor is recommended from this pin to ground to assure stability.", 5 EP (power) "It is recommended to connect this pin to GND for improved thermal performance."

## TLV71728PDQNR
designator U?
Single Output Low Noise LDO, 150 mA, Fixed 2.8 V Output, 1.7 to 5.5 V Input, 4-pin X2SON (DQN), -40 to 85 degC, Green (RoHS & no Sb/Br); Manufacturer: Texas Instruments; PartNumber: TLV71728PDQNR; Accuracy(%): 1.5; Fixed Output Options(V): 2.8; Iout(Max)(A): 0.15; Iq(Typ)(mA): 0.03; SubFamily: Single Channel LDO; Vdo(Typ)(mV): 360; Vin(Max)(V): 5.5; Vin(Min)(V): 1.7; DatasheetVersion: SBVS176A; PackageVersion: 4210367/D; PackageReference: DQN4-480X480TP; PackageDescription: 4-Pin Plastic Small Outline, Body 1 x 1 mm, Pitch 0.65 mm; Supplier 1: Digi-Key; Supplier Part Number 1: TLV71728PDQNR-ND; Supplier 2: Newark; Supplier Part Number 2: 94T1807; Supplier 3: Mouser; Supplier Part Number 3: 595-TLV71728PDQNR; Eco-Plan: Green (RoHS & no Sb/Br); Vout Adj(Max)(V): 2.8; Vout Adj(Min)(V): 2.8; Mounting Technology: Surface Mount; ComponentLink1Description: Manufacturer URL; ComponentLink1URL: http://www.ti.com/; ComponentLink2Description: Datasheet; ComponentLink2URL: http://www.ti.com/general/docs/lit/getliterature.tsp?genericPartNumber=TLV71728P&fileType=pdf
footprint TI-DQN4-480X480TP_V (SON, 4-Leads, Body 1x1mm, Pitch 0.65mm, Thermal Pad 0.5x0.5mm)
pins: 1 OUT (power) "Regulated output voltage pin. A small 1-uF ceramic capacitor is recommended from this pin to ground to assure stability.", 2 GND (power) "Ground pin", 3 EN (in) "Enable pin. Driving EN over 1.2 V turns on the regulator. Driving EN below 0.4 V puts the regulator into shutdown mode.", 4 IN (power) "Input pin. A small capacitor is recommended from this pin to ground to assure stability.", 5 EP (power) "It is recommended to connect this pin to GND for improved thermal performance."

## TLV71728PDQNT
designator U?
Single Output Low Noise LDO, 150 mA, Fixed 2.8 V Output, 1.7 to 5.5 V Input, 4-pin X2SON (DQN), -40 to 85 degC, Green (RoHS & no Sb/Br); Manufacturer: Texas Instruments; PartNumber: TLV71728PDQNT; Accuracy(%): 1.5; Fixed Output Options(V): 2.8; Iout(Max)(A): 0.15; Iq(Typ)(mA): 0.03; SubFamily: Single Channel LDO; Vdo(Typ)(mV): 360; Vin(Max)(V): 5.5; Vin(Min)(V): 1.7; DatasheetVersion: SBVS176A; PackageVersion: 4210367/D; PackageReference: DQN4-480X480TP; PackageDescription: 4-Pin Plastic Small Outline, Body 1 x 1 mm, Pitch 0.65 mm; Supplier 1: Digi-Key; Supplier Part Number 1: 296-30485-2-ND; Supplier 2: Digi-Key; Supplier Part Number 2: 296-30485-1-ND; Supplier 3: Digi-Key; Supplier Part Number 3: 296-30485-6-ND; Supplier 4: Farnell; Supplier Part Number 4: 2144275; Supplier 5: Newark; Supplier Part Number 5: 94T1808; Supplier 6: Newark; Supplier Part Number 6: 27W5375; Supplier 7: Mouser; Supplier Part Number 7: 595-TLV71728PDQNT; Eco-Plan: Green (RoHS & no Sb/Br); Vout Adj(Max)(V): 2.8; Vout Adj(Min)(V): 2.8; Mounting Technology: Surface Mount; ComponentLink1Description: Manufacturer URL; ComponentLink1URL: http://www.ti.com/; ComponentLink2Description: Datasheet; ComponentLink2URL: http://www.ti.com/general/docs/lit/getliterature.tsp?genericPartNumber=TLV71728P&fileType=pdf
footprint TI-DQN4-480X480TP_V (SON, 4-Leads, Body 1x1mm, Pitch 0.65mm, Thermal Pad 0.5x0.5mm)
pins: 1 OUT (power) "Regulated output voltage pin. A small 1-uF ceramic capacitor is recommended from this pin to ground to assure stability.", 2 GND (power) "Ground pin", 3 EN (in) "Enable pin. Driving EN over 1.2 V turns on the regulator. Driving EN below 0.4 V puts the regulator into shutdown mode.", 4 IN (power) "Input pin. A small capacitor is recommended from this pin to ground to assure stability.", 5 EP (power) "It is recommended to connect this pin to GND for improved thermal performance."

## TLV71730PDQNR
designator U?
Single Output Low Noise LDO, 150 mA, Fixed 3 V Output, 1.7 to 5.5 V Input, 4-pin X2SON (DQN), -40 to 85 degC, Green (RoHS & no Sb/Br); Manufacturer: Texas Instruments; PartNumber: TLV71730PDQNR; Accuracy(%): 1.5; Fixed Output Options(V): 3; Iout(Max)(A): 0.15; Iq(Typ)(mA): 0.03; SubFamily: Single Channel LDO; Vdo(Typ)(mV): 360; Vin(Max)(V): 5.5; Vin(Min)(V): 1.7; DatasheetVersion: SBVS176A; PackageVersion: 4210367/D; PackageReference: DQN4-480X480TP; PackageDescription: 4-Pin Plastic Small Outline, Body 1 x 1 mm, Pitch 0.65 mm; Supplier 1: Digi-Key; Supplier Part Number 1: 296-30490-2-ND; Supplier 2: Digi-Key; Supplier Part Number 2: 296-30490-1-ND; Supplier 3: Digi-Key; Supplier Part Number 3: 296-30490-6-ND; Supplier 4: Newark; Supplier Part Number 4: 06W3544; Supplier 5: Mouser; Supplier Part Number 5: 595-TLV71730PDQNR; Eco-Plan: Green (RoHS & no Sb/Br); Vout Adj(Max)(V): 3; Vout Adj(Min)(V): 3; Mounting Technology: Surface Mount; ComponentLink1Description: Manufacturer URL; ComponentLink1URL: http://www.ti.com/; ComponentLink2Description: Datasheet; ComponentLink2URL: http://www.ti.com/general/docs/lit/getliterature.tsp?genericPartNumber=TLV71730P&fileType=pdf
footprint TI-DQN4-480X480TP_V (SON, 4-Leads, Body 1x1mm, Pitch 0.65mm, Thermal Pad 0.5x0.5mm)
pins: 1 OUT (power) "Regulated output voltage pin. A small 1-uF ceramic capacitor is recommended from this pin to ground to assure stability.", 2 GND (power) "Ground pin", 3 EN (in) "Enable pin. Driving EN over 1.2 V turns on the regulator. Driving EN below 0.4 V puts the regulator into shutdown mode.", 4 IN (power) "Input pin. A small capacitor is recommended from this pin to ground to assure stability.", 5 EP (power) "It is recommended to connect this pin to GND for improved thermal performance."

## TLV71730PDQNT
designator U?
Single Output Low Noise LDO, 150 mA, Fixed 3 V Output, 1.7 to 5.5 V Input, 4-pin X2SON (DQN), -40 to 85 degC, Green (RoHS & no Sb/Br); Manufacturer: Texas Instruments; PartNumber: TLV71730PDQNT; Accuracy(%): 1.5; Fixed Output Options(V): 3; Iout(Max)(A): 0.15; Iq(Typ)(mA): 0.03; SubFamily: Single Channel LDO; Vdo(Typ)(mV): 360; Vin(Max)(V): 5.5; Vin(Min)(V): 1.7; DatasheetVersion: SBVS176A; PackageVersion: 4210367/D; PackageReference: DQN4-480X480TP; PackageDescription: 4-Pin Plastic Small Outline, Body 1 x 1 mm, Pitch 0.65 mm; Supplier 1: Digi-Key; Supplier Part Number 1: TLV71730PDQNT-ND; Supplier 2: Farnell; Supplier Part Number 2: 2211358; Supplier 3: Newark; Supplier Part Number 3: 06W3545; Supplier 4: Newark; Supplier Part Number 4: 44W8608; Supplier 5: Mouser; Supplier Part Number 5: 595-TLV71730PDQNT; Eco-Plan: Green (RoHS & no Sb/Br); Vout Adj(Max)(V): 3; Vout Adj(Min)(V): 3; Mounting Technology: Surface Mount; ComponentLink1Description: Manufacturer URL; ComponentLink1URL: http://www.ti.com/; ComponentLink2Description: Datasheet; ComponentLink2URL: http://www.ti.com/general/docs/lit/getliterature.tsp?genericPartNumber=TLV71730P&fileType=pdf
footprint TI-DQN4-480X480TP_V (SON, 4-Leads, Body 1x1mm, Pitch 0.65mm, Thermal Pad 0.5x0.5mm)
pins: 1 OUT (power) "Regulated output voltage pin. A small 1-uF ceramic capacitor is recommended from this pin to ground to assure stability.", 2 GND (power) "Ground pin", 3 EN (in) "Enable pin. Driving EN over 1.2 V turns on the regulator. Driving EN below 0.4 V puts the regulator into shutdown mode.", 4 IN (power) "Input pin. A small capacitor is recommended from this pin to ground to assure stability.", 5 EP (power) "It is recommended to connect this pin to GND for improved thermal performance."

## TLV71733PDQNR
designator U?
Single Output Low Noise LDO, 150 mA, Fixed 3.3 V Output, 1.7 to 5.5 V Input, 4-pin X2SON (DQN), -40 to 85 degC, Green (RoHS & no Sb/Br); Manufacturer: Texas Instruments; PartNumber: TLV71733PDQNR; Accuracy(%): 1.5; Fixed Output Options(V): 3.3; Iout(Max)(A): 0.15; Iq(Typ)(mA): 0.03; SubFamily: Single Channel LDO; Vdo(Typ)(mV): 360; Vin(Max)(V): 5.5; Vin(Min)(V): 1.7; DatasheetVersion: SBVS176A; PackageVersion: 4210367/D; PackageReference: DQN4-480X480TP; PackageDescription: 4-Pin Plastic Small Outline, Body 1 x 1 mm, Pitch 0.65 mm; Supplier 1: Digi-Key; Supplier Part Number 1: TLV71733PDQNR-ND; Supplier 2: Newark; Supplier Part Number 2: 94T1809; Supplier 3: Mouser; Supplier Part Number 3: 595-TLV71733PDQNR; Eco-Plan: Green (RoHS & no Sb/Br); Vout Adj(Max)(V): 3.3; Vout Adj(Min)(V): 3.3; Mounting Technology: Surface Mount; ComponentLink1Description: Manufacturer URL; ComponentLink1URL: http://www.ti.com/; ComponentLink2Description: Datasheet; ComponentLink2URL: http://www.ti.com/general/docs/lit/getliterature.tsp?genericPartNumber=TLV71733P&fileType=pdf
footprint TI-DQN4-480X480TP_V (SON, 4-Leads, Body 1x1mm, Pitch 0.65mm, Thermal Pad 0.5x0.5mm)
pins: 1 OUT (power) "Regulated output voltage pin. A small 1-uF ceramic capacitor is recommended from this pin to ground to assure stability.", 2 GND (power) "Ground pin", 3 EN (in) "Enable pin. Driving EN over 1.2 V turns on the regulator. Driving EN below 0.4 V puts the regulator into shutdown mode.", 4 IN (power) "Input pin. A small capacitor is recommended from this pin to ground to assure stability.", 5 EP (power) "It is recommended to connect this pin to GND for improved thermal performance."

## TLV71733PDQNT
designator U?
Single Output Low Noise LDO, 150 mA, Fixed 3.3 V Output, 1.7 to 5.5 V Input, 4-pin X2SON (DQN), -40 to 85 degC, Green (RoHS & no Sb/Br); Manufacturer: Texas Instruments; PartNumber: TLV71733PDQNT; Accuracy(%): 1.5; Fixed Output Options(V): 3.3; Iout(Max)(A): 0.15; Iq(Typ)(mA): 0.03; SubFamily: Single Channel LDO; Vdo(Typ)(mV): 360; Vin(Max)(V): 5.5; Vin(Min)(V): 1.7; DatasheetVersion: SBVS176A; PackageVersion: 4210367/D; PackageReference: DQN4-480X480TP; PackageDescription: 4-Pin Plastic Small Outline, Body 1 x 1 mm, Pitch 0.65 mm; Supplier 1: Digi-Key; Supplier Part Number 1: 296-30486-2-ND; Supplier 2: Digi-Key; Supplier Part Number 2: 296-30486-1-ND; Supplier 3: Digi-Key; Supplier Part Number 3: 296-30486-6-ND; Supplier 4: Farnell; Supplier Part Number 4: 2144276; Supplier 5: Newark; Supplier Part Number 5: 94T1810; Supplier 6: Newark; Supplier Part Number 6: 27W5376; Supplier 7: Mouser; Supplier Part Number 7: 595-TLV71733PDQNT; Eco-Plan: Green (RoHS & no Sb/Br); Vout Adj(Max)(V): 3.3; Vout Adj(Min)(V): 3.3; Mounting Technology: Surface Mount; ComponentLink1Description: Manufacturer URL; ComponentLink1URL: http://www.ti.com/; ComponentLink2Description: Datasheet; ComponentLink2URL: http://www.ti.com/general/docs/lit/getliterature.tsp?genericPartNumber=TLV71733P&fileType=pdf
footprint TI-DQN4-480X480TP_V (SON, 4-Leads, Body 1x1mm, Pitch 0.65mm, Thermal Pad 0.5x0.5mm)
pins: 1 OUT (power) "Regulated output voltage pin. A small 1-uF ceramic capacitor is recommended from this pin to ground to assure stability.", 2 GND (power) "Ground pin", 3 EN (in) "Enable pin. Driving EN over 1.2 V turns on the regulator. Driving EN below 0.4 V puts the regulator into shutdown mode.", 4 IN (power) "Input pin. A small capacitor is recommended from this pin to ground to assure stability.", 5 EP (power) "It is recommended to connect this pin to GND for improved thermal performance."